# EAGLE library part TPS62065 (library SparkFun-IC-Power)
TPS62065 DC/DC step-Down regulator.
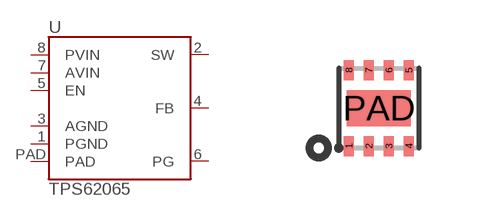
[diagram p8: symbol with the pads of WSON-8-PAD; footprint WSON-8-PAD]

Designator prefix U

## TPS62065 (PROD_ID: IC-12273)  [WSON-8-PAD]
1  PGND
2  SW
3  AGND
4  FB
5  EN
6  PG
7  AVIN
8  PVIN
PAD  PAD

## Footprint WSON-8-PAD (pad centres in mm)
smd 0.25 x 0.5: 1 -0.75,-0.95; 2 -0.25,-0.95; 3 0.25,-0.95; 4 0.75,-0.95; 5 0.75,0.95; 6 0.25,0.95; 7 -0.25,0.95; 8 -0.75,0.95
smd 1.6 x 0.9: PAD 0,0